# Altium footprint library sajat.PcbLib: 17 footprints (part 1 of 2)
Each footprint in its own frame and in the unit in brackets; x right, y up, seen from the top. Pads: shape width x height; smd on the part's side, far side on the other; paste and mask are expansions set on the pad; w line width, h text height; cw(c..) or ccw(c..) is an arc to the next point about the centre after c.
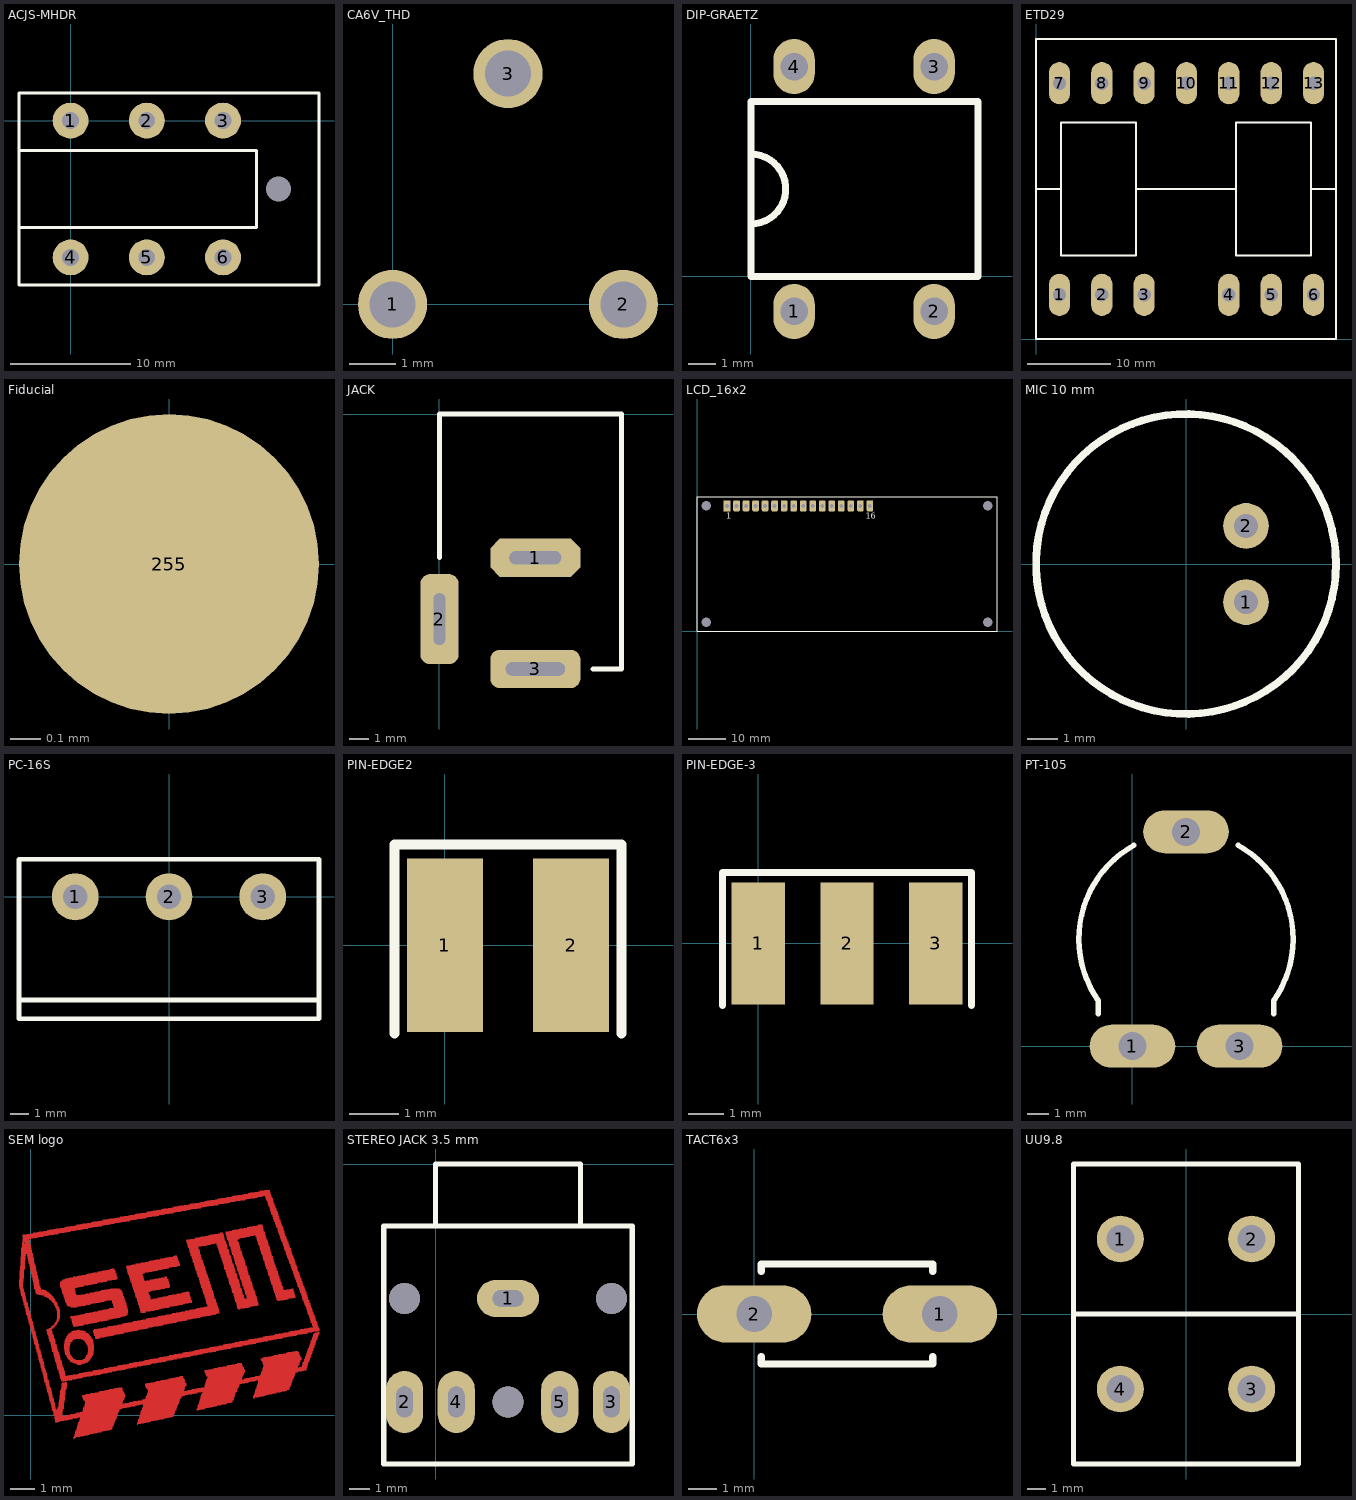
[diagram p0: the footprints below, top view; thin cyan lines are the x and y axes]

## ACJS-MHDR [mm] "Amphenol 6.3mm audio jack"
height 12.7
pads (7):
  round 3 hole 1.4: 1(0,0) 2(6.35,0) 3(12.7,0) 4(0,-11.4) 5(6.35,-11.4) 6(12.7,-11.4)
  round 0 hole 2.1 unplated: 7(17.33,-5.7)
Top Overlay:
  lines w0.254: -4.3,-8.9 15.5,-8.9 15.5,-2.5 -4.3,-2.5 ; -4.3,-13.7 -4.3,2.3 20.7,2.3 20.7,-13.7 -4.3,-13.7

## CA6V_THD [mm] "CA6V tokozású potméter (furatszerelt)"
height 4
pads (3):
  round 1.5 hole 1: 1(0,0) 2(5,0) 3(2.5,5)

## DIP-GRAETZ [mm] "Graetz híd"
height 3.3
pads (4):
  oval 1.5x2 hole 1: 1(1.575,-1.27) 2(6.655,-1.27) 3(6.655,7.62) 4(1.575,7.62)
Top Overlay:
  lines w0.254: 0,1.905 ccw(c0,3.175) 0,4.445 ; 0,0 0,6.35 8.255,6.35 8.255,0 0,0
3D body: height 5, standoff 0.38, extent 0,0 8.382,6.35

## ETD29 [mm]
pads (13):
  oval 2.54x5.08 hole 1.6: 1(2.82,5.3) 2(7.9,5.3) 3(12.98,5.3) 4(23.14,5.3) 5(28.22,5.3) 6(33.3,5.3) 7(2.82,30.7) 8(7.9,30.7) 9(12.98,30.7) 10(18.06,30.7) 11(23.14,30.7) 12(28.22,30.7) 13(33.3,30.7)
Top Overlay:
  lines w0.254: 0,18 3,18 ; 12,18 24,18 ; 33,18 36,18 ; 0,0 36,0 36,36 0,36 0,0 ; 3,10 3,26 12,26 12,10 3,10 ; 24,10 24,26 33,26 33,10 24,10
3D body: height 25, standoff 0, extent 0,0 36.068,36.068

## Fiducial [mm] "Fiduciális jel, 1mm átmérõvel"
pads (1):
  round 1 smd paste-100 mask+0.5: 255(0,0)

## JACK [mm] "Jack tápcsatlakozó"
height 11
pads (3):
  oct 4.7x2 hole 0.7 slot 2.7 at 0 deg: 1(5,-7.5)
  rrect50% 2x4.7 hole 0.6 slot 2.7 at 90 deg: 2(0,-10.7)
  rrect50% 4.7x2 hole 0.7 slot 3.1 at 0 deg: 3(5,-13.3)
Top Overlay:
  lines w0.254: 0,-7.5 0,0 9.4,0 ; 8,-13.3 9.5,-13.3 9.5,0

## LCD_16x2 [mm] "16x2 karakteres LCD"
height 14
pads (20):
  rect 1.8x3 hole 1: 1(8,33.5)
  rrect50% 1.8x3 hole 1: 2(10.54,33.5) 3(13.08,33.5) 4(15.62,33.5) 5(18.16,33.5) 6(20.7,33.5) 7(23.24,33.5) 8(25.78,33.5) 9(28.32,33.5) 10(30.86,33.5) 11(33.4,33.5) 12(35.94,33.5) 13(38.48,33.5) 14(41.02,33.5) 15(43.56,33.5) 16(46.1,33.5)
  round 0 hole 2.5 unplated: 100(2.5,2.5) 101(2.5,33.5) 102(77.5,2.5) 103(77.5,33.5)
Top Overlay:
  lines w0.254: 0,0 80,0 80,36 0,36 0,0
  text "16" at 45,30 h1.52
  text "1" at 7.75,30 h1.52

## MIC 10 mm [mm] "10 mm átmérõjû elektret mikrofon betét"
height 5
pads (2):
  round 1.524 hole 0.8: 1(2,-1.27) 2(2,1.27)
Top Overlay:
  circle w0.254: c0,0 r5
  text ".Designator" at -4,6 h1.52

## PC-16S [mm] "Piher PC-16S potenciométer"
height 20.5
pads (3):
  round 2.5 hole 1.3: 1(-5,0) 2(0,0) 3(5,0)
Top Overlay:
  lines w0.254: -8,-5.5 8,-5.5 ; -8,-6.5 -8,2 8,2 8,-6.5 -8,-6.5

## PIN-EDGE2 [mm] "2,54mm raszterû élcsatlakozó"
pads (2):
  rect 1.524x3.5 smd: 1(0,0) 2(2.54,0)
Top Overlay:
  lines w0.203: -1.016,-1.778 -1.016,2.032 3.556,2.032 3.556,-1.778

## PIN-EDGE-3 [mm] "2,54mm raszterû élcsatlakozó"
pads (3):
  rect 1.524x3.5 smd: 1(0,0) 2(2.54,0) 3(5.08,0)
Top Overlay:
  lines w0.203: -1.016,-1.778 -1.016,2.032 6.096,2.032 6.096,-1.778

## PT-105 [mm] "Furatszerelt, fektetett trimmer potenciométer"
height 5.6
pads (3):
  oval 4x2 hole 1.3: 1(0,0) 2(2.5,10) 3(5,0)
Top Overlay:
  lines w0.254: -1.6,1.5 -1.6,2.1 ; -1.582,2.113 cw(c2.5,5) 0.072,9.371 ; 4.928,9.371 cw(c2.5,5) 6.582,2.113 ; 6.6,1.5 6.6,2.1

## SEM logo [mm]
Top Layer:
  drawing of 2133 lines, arcs and shapes, not listed

## STEREO JACK 3.5 mm [mm]
height 7
pads (5):
  oval 3x1.8 hole 0.8 slot 1.5 at 0 deg: 1(3.5,-6.5)
  oval 1.8x3 hole 0.8 slot 1.5 at 90 deg: 2(-1.5,-11.5) 3(8.5,-11.5) 4(1,-11.5) 5(6,-11.5)
via 3.5,-11.5 diameter 1.5 hole 1.5
via -1.5,-6.5 diameter 1.5 hole 1.5
via 8.5,-6.5 diameter 1.5 hole 1.5
Top Overlay:
  lines w0.254: 0,-3 0,0 7,0 7,-3 ; -2.5,-14.5 9.5,-14.5 9.5,-3 -2.5,-3 -2.5,-14.5

## TACT6x3 [mm] "Kapcsoló"
pads (2):
  oval 4x2 hole 1.25: 1(6.5,0) 2(0,0)
Top Overlay:
  lines w0.254: 0.25,-1.5 0.25,-1.75 6.25,-1.75 6.25,-1.5 ; 0.25,1.5 0.25,1.75 6.25,1.75 6.25,1.5

## UU9.8 [mm] "Hálózati zavarszûrõ transzformátor"
height 16.5
pads (4):
  round 2.5 hole 1.5: 1(-3.5,4) 2(3.5,4) 3(3.5,-4) 4(-3.5,-4)
Top Overlay:
  lines w0.254: -6,0 6,0 ; -6,-8 6,-8 6,8 -6,8 -6,-8
3D body: height 16.5, standoff 0, extent -6,-8 6,8